# Altium schematic symbol library XC6215B332MR-G.SchLib: 1 symbol
Pins are listed as number, name and electrical type; pins without a type are passive.

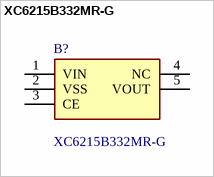
[diagram p0: symbol XC6215B332MR-G]

## XC6215B332MR-G
designator B?
LDO Voltage Regulators 0.8uA Low Quiescent Current Vltg Reg; Manufacturer_Name: Torex; Geometry.Height: 1.3mm; Manufacturer_Part_Number: XC6215B332MR-G; Mouser Part Number: 865-XC6215B332MR-G; Mouser Price/Stock: https://www.mouser.co.uk/ProductDetail/Torex-Semiconductor/XC6215B332MR-G?qs=AsjdqWjXhJ%252BU0g%252BU2lNkGA%3D%3D; Arrow Part Number: *; Arrow Price/Stock: *; Datasheet Link: https://www.torexsemi.com/file/xc6215/XC6215.pdf
footprint SOT95P280X130-5N
pins: 1 VIN, 2 VSS, 3 CE, 4 NC, 5 VOUT